# EAGLE library part 632712000011 (library WE_Stecker)
USB 3.1 TYPE C PLUG - HORIZONTAL SMT =>ConUSB31 632712000011 Characteristics INSULATOR: LCP FLAMMABILITY RATING: UL94-V0 COLOR: BLACK CONTACT MATERIAL: COPPER ALLOY CONTACT PLATING: 2μ’’ GOLD OVER 30μ’’ Pd-Ni COVER MATERIAL: STEEL COVER PLATING: Ni QUALITY CLASS: 10 000 MATING CYCLES OPERATING TEMPERATURE:-25°C UP TO +105°C COMPLIANCE: LEAD FREE AND ROHS ELECTRICAL CURRENT RATING: 3 A MAX WORKING VOLTAGE: 5 VDC WITHSTANDING VOLTAGE: 100 VAC/MIN INSULATION RESISTANCE: >1000 MΩ CONTACT RESISTANCE: 30 mΩ MAX MECHANICAL INSERTION FORCE: 5-8 N MAX EXTRACTION FORCE: 8-20 N MIN <http://katalog.we-online.de/media/images/v2/Family_WR-COM_632712000011_4C.jpg> Details see: http://katalog.we-online.de/en/em/COM_3_1_SMT_TYPE_C_PLUG_HORIZONTAL/632712000011? 2015 (C) Wurth Elektronik
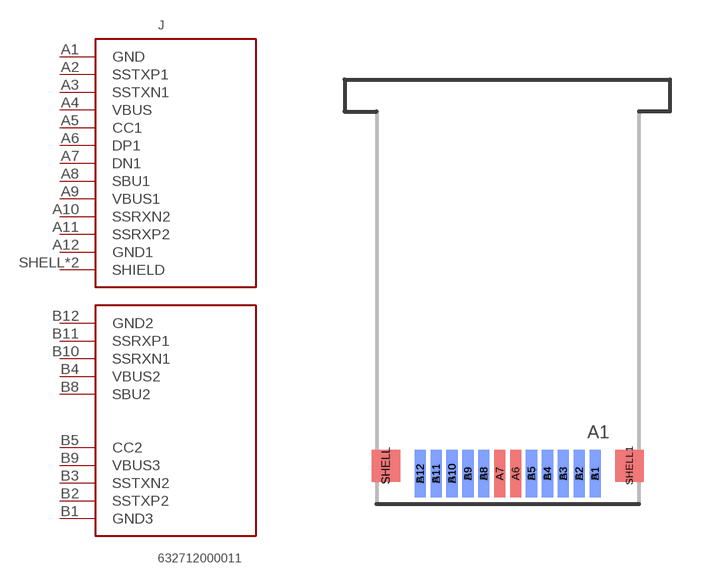
[diagram p170: symbol with the pads of 632712000011; footprint 632712000011]

Designator prefix J

## 632712000011(T)  [632712000011]
A1  GND
A2  SSTXP1
A3  SSTXN1
A4  VBUS
A5  CC1
A6  DP1
A7  DN1
A8  SBU1
A9  VBUS1
A10  SSRXN2
A11  SSRXP2
A12  GND1
B1  GND3
B2  SSTXP2
B3  SSTXN2
B4  VBUS2
B5  CC2
B8  SBU2
B9  VBUS3
B10  SSRXN1
B11  SSRXP1
B12  GND2
SHELL  SHIELD
SHELL1  SHIELD

## Footprint 632712000011 (pad centres in mm)
smd 0.35 x 1.5: A1 2.75,0; A2 2.25,0; A3 1.75,0; A4 1.25,0; A5 0.75,0; A6 0.25,0; A7 -0.25,0; A8 -0.75,0; A9 -1.25,0; A10 -1.75,0; A11 -2.25,0; A12 -2.75,0
smd 0.35 x 1.5 bottom: B1 2.75,0; B2 2.25,0; B3 1.75,0; B4 1.25,0; B5 0.75,0; B8 -0.75,0; B9 -1.25,0; B10 -1.75,0; B11 -2.25,0; B12 -2.75,0
smd 0.9 x 1: SHELL -3.825,0.25; SHELL1 3.825,0.25